# EAGLE library part 5VSTEPDOWN (library Polulu)
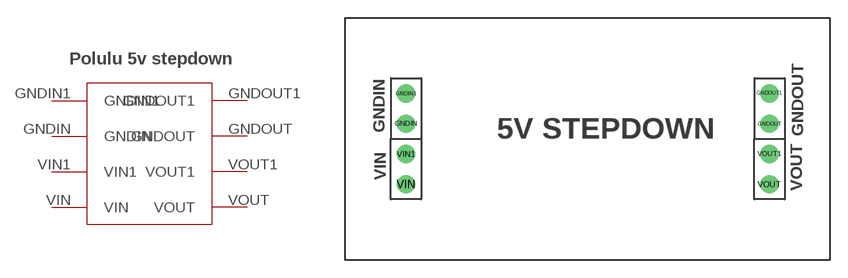
[diagram p1: symbol with the pads of 5VSTEPDOWN; footprint 5VSTEPDOWN]

Designator prefix -

## 5VSTEPDOWN  [5VSTEPDOWN]
GNDIN  GNDIN
GNDIN1  GNDIN1
GNDOUT  GNDOUT
GNDOUT1  GNDOUT1
VIN  VIN
VIN1  VIN1
VOUT  VOUT
VOUT1  VOUT1

## Footprint 5VSTEPDOWN (pad centres in mm)
drill 1.02: GNDIN 5.08,11.43; GNDIN1 5.08,13.97; GNDOUT 35.56,11.43; GNDOUT1 35.56,13.97; VIN 5.08,6.35; VIN1 5.08,8.89; VOUT 35.56,6.35; VOUT1 35.56,8.89